# EAGLE library part RELAY_BYPASS (library PedalSync_Module_Footprint_Library_v2)
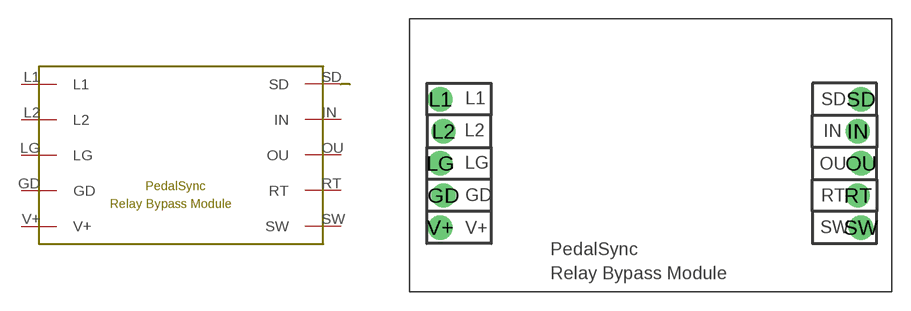
[diagram p5: symbol with the pads of RELAY_BYPASS; footprint RELAY_BYPASS]

Designator prefix -

## RELAY_BYPASS  [RELAY_BYPASS]
GD  GD
IN  IN
L1  L1
L2  L2
LG  LG
OU  OU
RT  RT
SD  SD
SW  SW
V+  V+

## Footprint RELAY_BYPASS (pad centres in mm)
drill 0.9 pad 1.93 round: GD 2.667,7.62; IN 35.433,12.7; L1 2.413,15.24; L2 2.667,12.7; LG 2.413,10.16; OU 35.687,10.16; RT 35.433,7.62; SD 35.687,15.24; SW 35.687,5.08; V+ 2.413,5.08